# Altium schematic symbol library WE-TPB.SchLib: 6 symbols
Pins are listed as number, name and electrical type; pins without a type are passive.

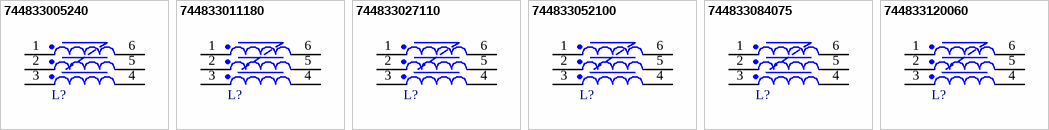
[diagram p0: symbols 744833005240 to 744833120060]

## 744833005240
designator L?, comment 0.52mH  (value not drawn)
WE-TPB THT Three-Phase Common Mode Power Line Choke, Type 3XL, 0.52mH, 24A, 3mΩ; Manufacturer Part Number: 744833005240; Manufacturer: Wurth Elektronik; Insulation Test Voltage (AC): 2500V; Material: MnZn; Rated Voltage (AC): 500V; ComponentLink1Description: Manufacturer Link; ComponentLink1URL: https://www.we-online.com/redexpert/article/744833005240?ad; ComponentLink2Description: Datasheet; ComponentLink2URL: https://www.we-online.com/redexpert/spec/744833005240?ad; Category: Common Mode Chokes; Match Code: WE-TPB; Mount: Through Hole; Operating Temperature Max: 125°C; Operating Temperature Min: -40°C; Packaging: Tray; Case/Size Code: Type 3XL; Height: 39mm; Diameter: 47mm; DC Resistance Max: 3mΩ; Inductance: 0.52mH; Rated Current: 24A
footprint WE-TPB_Type 3XL_744833005240
pins: 1, 2, 3, 4, 5, 6

## 744833011180
designator L?, comment 1.1mH  (value not drawn)
WE-TPB THT Three-Phase Common Mode Power Line Choke, Type 3XL, 1.1mH, 18A, 7mΩ; Manufacturer Part Number: 744833011180; Manufacturer: Wurth Elektronik; Insulation Test Voltage (AC): 2500V; Material: MnZn; Rated Voltage (AC): 500V; ComponentLink1Description: Manufacturer Link; ComponentLink1URL: https://www.we-online.com/redexpert/article/744833011180?ad; ComponentLink2Description: Datasheet; ComponentLink2URL: https://www.we-online.com/redexpert/spec/744833011180?ad; Category: Common Mode Chokes; Match Code: WE-TPB; Mount: Through Hole; Operating Temperature Max: 125°C; Operating Temperature Min: -40°C; Packaging: Tray; Case/Size Code: Type 3XL; Height: 39mm; Diameter: 47mm; DC Resistance Max: 7mΩ; Inductance: 1.1mH; Rated Current: 18A
footprint WE-TPB_Type 3XL_744833011180
pins: 1, 2, 3, 4, 5, 6

## 744833027110
designator L?, comment 2.7mH  (value not drawn)
WE-TPB THT Three-Phase Common Mode Power Line Choke, Type 3XL, 2.7mH, 11A, 18mΩ; Manufacturer Part Number: 744833027110; Manufacturer: Wurth Elektronik; Insulation Test Voltage (AC): 2500V; Material: MnZn; Rated Voltage (AC): 500V; ComponentLink1Description: Manufacturer Link; ComponentLink1URL: https://www.we-online.com/redexpert/article/744833027110?ad; ComponentLink2Description: Datasheet; ComponentLink2URL: https://www.we-online.com/redexpert/spec/744833027110?ad; Category: Common Mode Chokes; Match Code: WE-TPB; Mount: Through Hole; Operating Temperature Max: 125°C; Operating Temperature Min: -40°C; Packaging: Tray; Case/Size Code: Type 3XL; Height: 39mm; Diameter: 47mm; DC Resistance Max: 18mΩ; Inductance: 2.7mH; Rated Current: 11A
footprint WE-TPB_Type 3XL_744833027110
pins: 1, 2, 3, 4, 5, 6

## 744833052100
designator L?, comment 5.2mH  (value not drawn)
WE-TPB THT Three-Phase Common Mode Power Line Choke, Type 3XL, 5.2mH, 10A, 27mΩ; Manufacturer Part Number: 744833052100; Manufacturer: Wurth Elektronik; Insulation Test Voltage (AC): 2500V; Material: MnZn; Rated Voltage (AC): 500V; ComponentLink1Description: Manufacturer Link; ComponentLink1URL: https://www.we-online.com/redexpert/article/744833052100?ad; ComponentLink2Description: Datasheet; ComponentLink2URL: https://www.we-online.com/redexpert/spec/744833052100?ad; Category: Common Mode Chokes; Match Code: WE-TPB; Mount: Through Hole; Operating Temperature Max: 125°C; Operating Temperature Min: -40°C; Packaging: Tray; Case/Size Code: Type 3XL; Height: 39mm; Diameter: 47mm; DC Resistance Max: 27mΩ; Inductance: 5.2mH; Rated Current: 10A
footprint WE-TPB_Type 3XL_744833052100
pins: 1, 2, 3, 4, 5, 6

## 744833084075
designator L?, comment 8.4mH  (value not drawn)
WE-TPB THT Three-Phase Common Mode Power Line Choke, Type 3XL, 8.4mH, 7.5A, 50mΩ; Manufacturer Part Number: 744833084075; Manufacturer: Wurth Elektronik; Insulation Test Voltage (AC): 2500V; Material: MnZn; Rated Voltage (AC): 500V; ComponentLink1Description: Manufacturer Link; ComponentLink1URL: https://www.we-online.com/redexpert/article/744833084075?ad; ComponentLink2Description: Datasheet; ComponentLink2URL: https://www.we-online.com/redexpert/spec/744833084075?ad; Category: Common Mode Chokes; Match Code: WE-TPB; Mount: Through Hole; Operating Temperature Max: 125°C; Operating Temperature Min: -40°C; Packaging: Tray; Case/Size Code: Type 3XL; Height: 39mm; Diameter: 47mm; DC Resistance Max: 50mΩ; Inductance: 8.4mH; Rated Current: 7.5A
footprint WE-TPB_Type 3XL_744833084075
pins: 1, 2, 3, 4, 5, 6

## 744833120060
designator L?, comment 12mH  (value not drawn)
WE-TPB THT Three-Phase Common Mode Power Line Choke, Type 3XL, 12mH, 6A, 65mΩ; Manufacturer Part Number: 744833120060; Manufacturer: Wurth Elektronik; Insulation Test Voltage (AC): 2500V; Material: MnZn; Rated Voltage (AC): 500V; ComponentLink1Description: Manufacturer Link; ComponentLink1URL: https://www.we-online.com/redexpert/article/744833120060?ad; ComponentLink2Description: Datasheet; ComponentLink2URL: https://www.we-online.com/redexpert/spec/744833120060?ad; Category: Common Mode Chokes; Match Code: WE-TPB; Mount: Through Hole; Operating Temperature Max: 125°C; Operating Temperature Min: -40°C; Packaging: Tray; Case/Size Code: Type 3XL; Height: 39mm; Diameter: 47mm; DC Resistance Max: 65mΩ; Inductance: 12mH; Rated Current: 6A
footprint WE-TPB_Type 3XL_744833120060
pins: 1, 2, 3, 4, 5, 6